# Altium footprint library Connector-KF-301.PcbLib: 2 footprints
Each footprint in its own frame and in the unit in brackets; x right, y up, seen from the top. Pads: shape width x height; smd on the part's side, far side on the other; paste and mask are expansions set on the pad; w line width, h text height; cw(c..) or ccw(c..) is an arc to the next point about the centre after c.
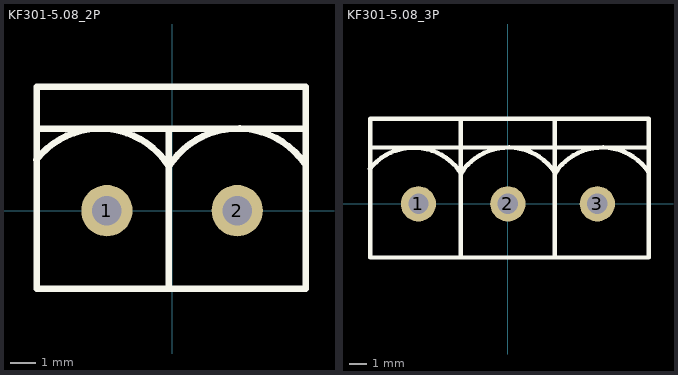
[diagram p0: the footprints below, top view; thin cyan lines are the x and y axes]

## KF301-5.08_2P [mm]
pads (2):
  round 2 hole 1.15: 1(-2.54,0) 2(2.54,0)
Top Overlay:
  lines w0.25: -5.283,3.2 5.207,3.2 ; -0.127,-3.047 -0.127,3.2 ; -5.283,-3.047 5.207,-3.047 5.207,4.827 -5.283,4.827 -5.283,3.988 -5.283,2.642 -5.283,-3.047
  lines w0.254: -5.291,1.987 cw(c-2.799,0.029) -0.141,1.754 ; -0.121,1.723 cw(c2.561,0.036) 5.156,1.854
3D body "User Library-Terminal-Screw-3A-2way.step": height 10.25, standoff -2.75, extent -5.549,-2.962 5.051,4.638

## KF301-5.08_3P [mm]
pads (3):
  round 2 hole 1.15: 1(-5.08,0) 2(0,0) 3(5.08,0)
Top Overlay:
  lines w0.25: -7.823,3.2 2.667,3.2 7.976,3.2 ; -2.667,-3.047 -2.667,4.827 ; 2.667,-3.047 8.001,-3.047 8.001,4.827 2.667,4.827 ; 2.667,-3.047 2.667,4.827 ; 2.667,-3.047 -7.823,-3.047 -7.823,2.642 -7.823,3.988 -7.823,4.827 2.667,4.827
  lines w0.254: -7.831,1.987 cw(c-5.339,0.029) -2.681,1.754 ; -2.661,1.723 cw(c0.021,0.036) 2.616,1.854 ; 2.673,1.723 cw(c5.355,0.036) 7.95,1.854
3D body "User Library-Terminal-Screw-3A-3way.step": height 10.25, standoff -2.75, extent -7.987,-3.038 7.613,4.562